# Altium schematic symbol library Capacitor - Supper Capacitor.SchLib: 1 symbol
Pins are listed as number, name and electrical type; pins without a type are passive.

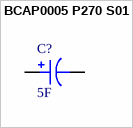
[diagram p0: symbol BCAP0005 P270 S01]

## BCAP0005 P270 S01
designator C?, comment 5F
CAP 5F -10% +20% 2.7V T/H; Part Number: BCAP0005 P270 S01; Manufacturer: Maxwell; TemperatureRange: -40°C ~ 65°C; Tolerance: 20%; Value: 5F; ComponentLink1Description: Datasheet; ComponentLink1URL: https://www.maxwell.com/images/documents/2_7_5F_ds_3001974_datasheet.pdf; ComponentLink2Description: Digi-Key listing; ComponentLink2URL: https://www.digikey.com/en/products/detail/maxwell-technologies-korea-co-ltd/BCAP0005-P270-S01/8440350; Voltage: 2.7V; Price: 2.55; Type: -; Device Package: T/H; Impedance: -; Supplier 1: Mouser; Supplier Part Number 1: 723-BCAP0005P270S01; Dimension: 10mm; Height: 21.5mm; Lead Spacing: 5mm
footprint BCAP0005P270S01 (CAP 5F -10% +20% 2.7V T/H)
pins: 1, 2